# EAGLE library part LTC5507 (library linear-technology)
RF Power Detector
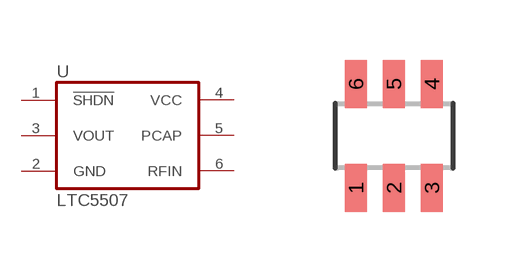
[diagram p58: symbol with the pads of TSOT23-6; footprint TSOT23-6]

Designator prefix U

## LTC5507 (P1I: o)  [TSOT23-6]
1  !SHDN!  in
2  GND  pwr
3  VOUT  out
4  VCC  pwr
5  PCAP  pas
6  RFIN  in

## Footprint TSOT23-6 (pad centres in mm)
TSOT-23 - S6 0.95 mm pitch
smd 0.55 x 1.2: 1 -0.95,-1.3; 2 0,-1.3; 3 0.95,-1.3; 4 0.95,1.3; 5 0,1.3; 6 -0.95,1.3